# EAGLE library part 691403900005 (library Wuerth_Elektronik_eiCan_Terminal_Blocks_v2.0)
WR-TBL Serie 4039 - 2.54mm Screwless Vertical Entry - 0.5mm2 Wires, 5 Pins
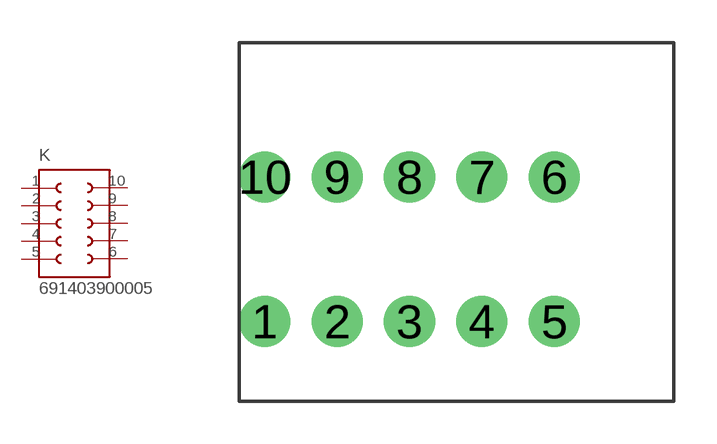
[diagram p210: symbol with the pads of 691403900005; footprint 691403900005]

Designator prefix K

## 691403900005  [691403900005]
1  1  pas
2  2  pas
3  3  pas
4  4  pas
5  5  pas
6  6  pas
7  7  pas
8  8  pas
9  9  pas
10  10  pas

## Footprint 691403900005 (pad centres in mm)
WR-TBL Serie 4039 - 2.54mm Screwless Vertical Entry - 0.5mm2 Wires, 5 Pins
drill 1.2 round: 1 -2.54,0; 2 0,0; 3 2.54,0; 4 5.08,0; 5 7.62,0; 6 7.62,5.08; 7 5.08,5.08; 8 2.54,5.08; 9 0,5.08; 10 -2.54,5.08